# Altium footprint library Footprints.PcbLib: 3 footprints
Each footprint in its own frame and in the unit in brackets; x right, y up, seen from the top. Pads: shape width x height; smd on the part's side, far side on the other; paste and mask are expansions set on the pad; w line width, h text height; cw(c..) or ccw(c..) is an arc to the next point about the centre after c.
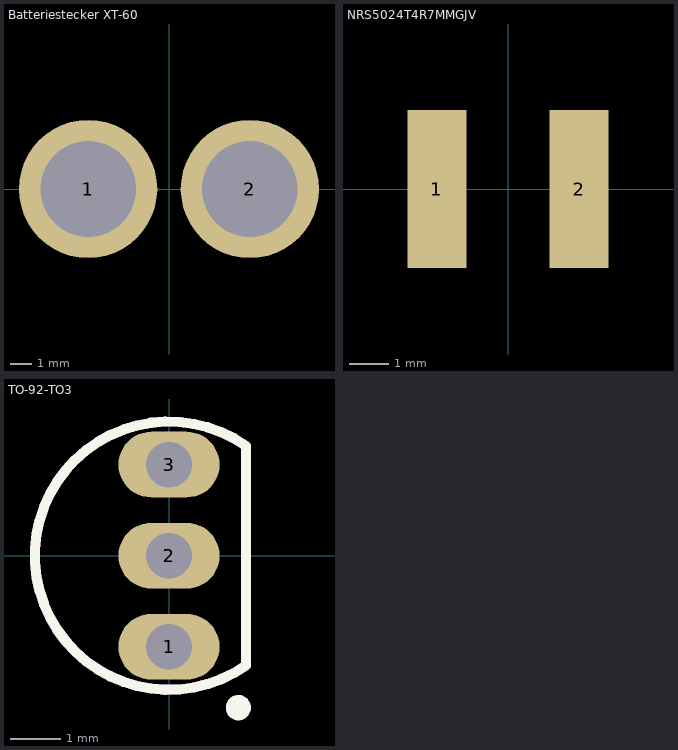
[diagram p0: the footprints below, top view; thin cyan lines are the x and y axes]

## Batteriestecker XT-60 [mm] "XT-60"
pads (2):
  round 6.5 hole 4.5: 1(-3.8,0) 2(3.8,0)
3D body: height 16, standoff 0, extent -8,-4 8,4

## NRS5024T4R7MMGJV [mm] "NRS5024T4R7MMGJV"
pads (2):
  rect 1.5x4 smd: 1(-1.8,0) 2(1.8,0)
3D body: height 2.4, standoff 0, extent -1.8,-2 1.8,2

## TO-92-TO3 [mm] "TO, Flat Index; 3 In-Line, Axial Leads; Body Dia. 4.8mm; Leads 0.56 x 0.53 mm (max)"
height 5.33
pads (3):
  oval 2x1.3 hole 0.9: 1(0,-1.8) 2(0,0) 3(0,1.8)
Top Overlay:
  circle w0.25: c1.371,-3.003 r0.125
  lines w0.2: 1.52,-2.171 cw(c0,0) 1.52,2.171 1.52,-2.171
Mechanical 13:
  lines w0.2: 1.52,-2.171 cw(c0,0) 1.52,2.171 1.52,-2.171
Mechanical 15:
  lines w0.1: -0.5,0 0.5,0 ; 0,-0.5 0,0.5
3D body: height 5.33, standoff 0, extent -2.651,-2.661 1.52,2.661